# Altium schematic symbol library Components - 02.10.24 - 08.23.SchLib: 1 symbol
Pins are listed as number, name and electrical type; pins without a type are passive.

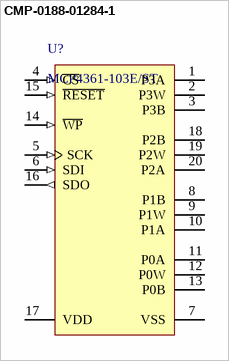
[diagram p0: symbol CMP-0188-01284-1]

## CMP-0188-01284-1
designator U?, comment MCP4361-103E/ST
7/8-Bit Quad SPI Digital POT with Non-Volatile Memory, 20-Pin TSSOP, Extended Temperature; ComponentLink2URL: http://ww1.microchip.com/downloads/en/DeviceDoc/22233a.pdf; PackageVersion: revBB, Aug-2009; Code_JEDEC: MO-153-AC; ComponentLink1Description: Manufacturer URL; DatasheetVersion: revA, Dec-2009; ComponentLink1URL: http://www.microchip.com/; PackageDescription: 20-Lead Plastic Thin Shrink Small Outline (ST) - 4.4mm Body [TSSOP]; ComponentLink3Description: Package Specification; PackageReference: TSSOP-ST20; ComponentLink3URL: http://www.microchip.com/stellent/groups/techpub_sg/documents/packagingspec/en012702.pdf; ComponentLink2Description: Datasheet
footprint TSSOP-ST20_N (TSOP, 20-Leads, Body 6.5x4.4mm, Pitch 0.65mm, IPC Medium Density)
footprint TSSOP-ST20_L (TSOP, 20-Leads, Body 6.5x4.4mm, Pitch 0.65mm, IPC High Density)
footprint TSSOP-ST20_M (TSOP, 20-Leads, Body 6.5x4.4mm, Pitch 0.65mm, IPC Low Density)
pins: 1 P3A, 2 P3W, 3 P3B, 4 ~{CS} (in), 5 SCK (in), 6 SDI (in), 7 VSS (power), 8 P1B, 9 P1W, 10 P1A, 11 P0A, 12 P0W, 13 P0B, 14 ~{WP} (in), 15 ~{RESET} (in), 16 SDO (out), 17 VDD (power), 18 P2B, 19 P2W, 20 P2A